# Altium schematic symbol library SCH - MEMORY - MACRONIX MX25V8035F.SCHLIB: 1 symbol
Pins are listed as number, name and electrical type; pins without a type are passive.

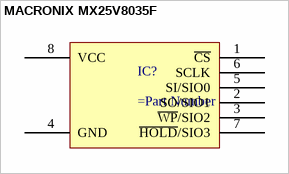
[diagram p0: symbol MACRONIX MX25V8035F]

## MACRONIX MX25V8035F
designator IC?
pins: 1 ~{CS}, 2 SO/SIO1, 3 ~{WP}/SIO2, 4 GND, 5 SI/SIO0, 6 SCLK, 7 ~{HOLD}/SIO3, 8 VCC